# Altium footprint library PcbLib1.PcbLib: 4 footprints
Each footprint in its own frame and in the unit in brackets; x right, y up, seen from the top. Pads: shape width x height; smd on the part's side, far side on the other; paste and mask are expansions set on the pad; w line width, h text height; cw(c..) or ccw(c..) is an arc to the next point about the centre after c.
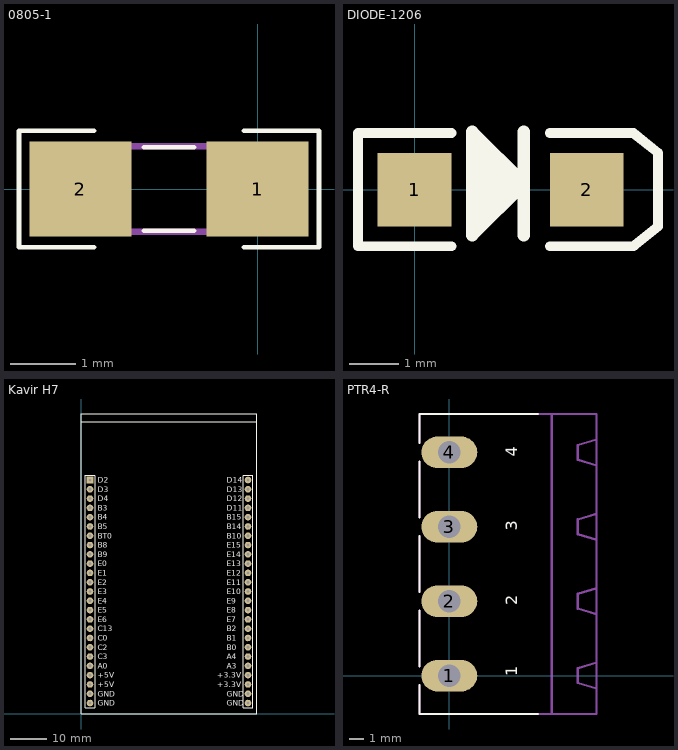
[diagram p0: the footprints below, top view; thin cyan lines are the x and y axes]

## 0805-1 [mm]
pads (2):
  rect 1.55x1.45 smd: 1(0,0) 2(-2.7,0)
Top Overlay:
  lines w0.07: -2.493,-0.889 -3.636,-0.889 -3.636,0.889 -2.493,0.889 ; -1.731,-0.635 -0.969,-0.635 ; -1.731,0.635 -0.969,0.635 ; -0.207,-0.889 0.936,-0.889 0.936,0.889 -0.207,0.889
Mechanical 13:
  lines w0.1: -3.05,-0.65 -3.05,0.65 0.35,0.65 0.35,-0.65 -3.05,-0.65
3D body "User Library-0805(2012M) Res.STEP": height 0.79, standoff 0, extent -2.604,-0.622 -0.096,0.622

## DIODE-1206 [mm]
pads (2):
  rect 1.5x1.5 smd: 1(0,0) 2(3.5,0)
Top Overlay:
  region: 1.173,-0.923 2.223,0.127 1.173,1.177
  lines w0.2: 0.75,-1.15 -1.15,-1.15 -1.15,1.15 0.75,1.15 ; 2.75,-1.15 4.45,-1.15 4.95,-0.75 4.95,0.75 4.45,1.15 2.75,1.15
  lines w0.254: 2.223,-0.923 2.223,1.177 ; 1.173,-0.923 1.173,1.177 2.223,0.127 1.173,-0.923
Mechanical 1:
  lines w0.1: 1.55,-0.025 1.95,-0.025 ; 1.55,0 1.95,0 ; 1.75,-0.225 1.75,0.175 ; 1.75,-0.2 1.75,0.2

## Kavir H7 [mm]
pads (50):
  rect 1.8x1.8 hole 0.9: 1(2.41,63.96)
  round 1.8 hole 0.9: 2(2.41,61.42) 3(2.41,58.88) 4(2.41,56.34) 5(2.41,53.8) 6(2.41,51.26) 7(2.41,48.72) 8(2.41,46.18) 9(2.41,43.64) 10(2.41,41.1) 11(2.41,38.56) 12(2.41,36.02) 13(2.41,33.48) 14(2.41,30.94) 15(2.41,28.4) 16(2.41,25.86) 17(2.41,23.32) 18(2.41,20.78) 19(2.41,18.24) 20(2.41,15.7) 21(2.41,13.16) 22(2.41,10.62) 23(2.41,8.08) 24(2.41,5.54) 25(2.41,3) 26(45.59,3) 27(45.59,5.54) 28(45.59,8.08) 29(45.59,10.62) 30(45.59,13.16) 31(45.59,15.7) 32(45.59,18.24) 33(45.59,20.78) 34(45.59,23.32) 35(45.59,25.86) 36(45.59,28.4) 37(45.59,30.94) 38(45.59,33.48) 39(45.59,36.02) 40(45.59,38.56) 41(45.59,41.1) 42(45.59,43.64) 43(45.59,46.18) 44(45.59,48.72) 45(45.59,51.26) 46(45.59,53.8) 47(45.59,56.34) 48(45.59,58.88) 49(45.59,61.42) 50(45.59,63.96)
Top Overlay:
  lines w0.2: 3.68,65.151 3.68,1.73 1.14,1.73 1.14,65.23 3.68,65.23 ; 44.32,65.151 44.32,1.73 46.86,1.73 46.86,65.23 44.32,65.23
  lines w0.254: 0,79.883 48,79.883 ; 0,0 0,82 48,82 48,0 0,0
  text "D2" at 4.572,63.198 h1.52
  text "D3" at 4.572,60.658 h1.52
  text "D4" at 4.572,58.118 h1.52
  text "B3" at 4.572,55.578 h1.52
  text "B4" at 4.572,53.038 h1.52
  text "B5" at 4.572,50.498 h1.52
  text "BT0" at 4.572,47.958 h1.52
  text "B8" at 4.572,45.418 h1.52
  text "B9" at 4.572,42.878 h1.52
  text "E0" at 4.572,40.338 h1.52
  text "E1" at 4.572,37.798 h1.52
  text "E2" at 4.572,35.258 h1.52
  text "E3" at 4.572,32.718 h1.52
  text "E4" at 4.572,30.178 h1.52
  text "E5" at 4.572,27.638 h1.52
  text "E6" at 4.572,25.098 h1.52
  text "C13" at 4.572,22.558 h1.52
  text "C0" at 4.572,20.018 h1.52
  text "C2" at 4.572,17.478 h1.52
  text "C3" at 4.572,14.938 h1.52
  text "A0" at 4.572,12.398 h1.52
  text "+5V" at 4.572,9.858 h1.52
  text "+5V" at 4.572,7.318 h1.52
  text "GND" at 4.572,4.778 h1.52
  text "GND" at 4.572,2.238 h1.52
  text "GND" at 39.754,2.238 h1.52
  text "GND" at 39.754,4.778 h1.52
  text "+3.3V" at 37.214,7.318 h1.52
  text "+3.3V" at 37.214,9.858 h1.52
  text "A3" at 39.754,12.398 h1.52
  text "A4" at 39.754,14.938 h1.52
  text "B0" at 39.754,17.478 h1.52
  text "B1" at 39.754,20.018 h1.52
  text "B2" at 39.754,22.558 h1.52
  text "E7" at 39.754,25.098 h1.52
  text "E8" at 39.754,27.638 h1.52
  text "E9" at 39.754,30.178 h1.52
  text "E10" at 39.754,32.718 h1.52
  text "E11" at 39.754,35.258 h1.52
  text "E12" at 39.754,37.798 h1.52
  text "E13" at 39.754,40.338 h1.52
  text "E14" at 39.754,42.878 h1.52
  text "E15" at 39.754,45.418 h1.52
  text "B10" at 39.754,47.958 h1.52
  text "B14" at 39.754,50.498 h1.52
  text "B15" at 39.754,53.038 h1.52
  text "D11" at 39.754,55.578 h1.52
  text "D12" at 39.754,58.118 h1.52
  text "D13" at 39.754,60.658 h1.52
  text "D14" at 39.754,63.198 h1.52

## PTR4-R [mil]
pads (4):
  oval 150x85 hole 60: 1(0,0) 2(0,200) 3(0,400) 4(0,600)
Top Overlay:
  lines w6: -80,-25 -80,-103.15 238.15,-103.15 ; -80,25 -80,175 ; -80,225 -80,375 ; -80,425 -80,575 ; -80,625 -80,703.15 238.15,703.15
  text "3" at 182.48,388.74 h31.5
  text "2" at 182.48,188.74 h31.5
  text "1" at 182.48,-1.26 h31.5
  text "4" at 182.48,588.74 h31.5
Mechanical 13:
  lines w6: -80,-25 -80,-103.15 238.15,-103.15 395,-103.15 395,-35 ; -80,25 -80,175 ; -80,225 -80,375 ; -80,425 -80,575 ; -80,625 -80,703.15 238.15,703.15 395,703.15 395,635 ; 275,-103.15 275,700 ; 395,-35 345,-20 345,20 395,35 ; 395,-35 395,35 ; 395,35 395,165 ; 395,165 345,180 345,220 395,235 ; 395,165 395,235 ; 395,235 395,365 ; 395,365 395,435 ; 395,365 345,380 345,420 395,435 ; 395,435 395,565 ; 395,565 395,635 ; 395,565 345,580 345,620 395,635